# Altium footprint library PCB - DIODES - MBR0520LT1G.PCBLIB: 1 footprints
Each footprint in its own frame and in the unit in brackets; x right, y up, seen from the top. Pads: shape width x height; smd on the part's side, far side on the other; paste and mask are expansions set on the pad; w line width, h text height; cw(c..) or ccw(c..) is an arc to the next point about the centre after c.
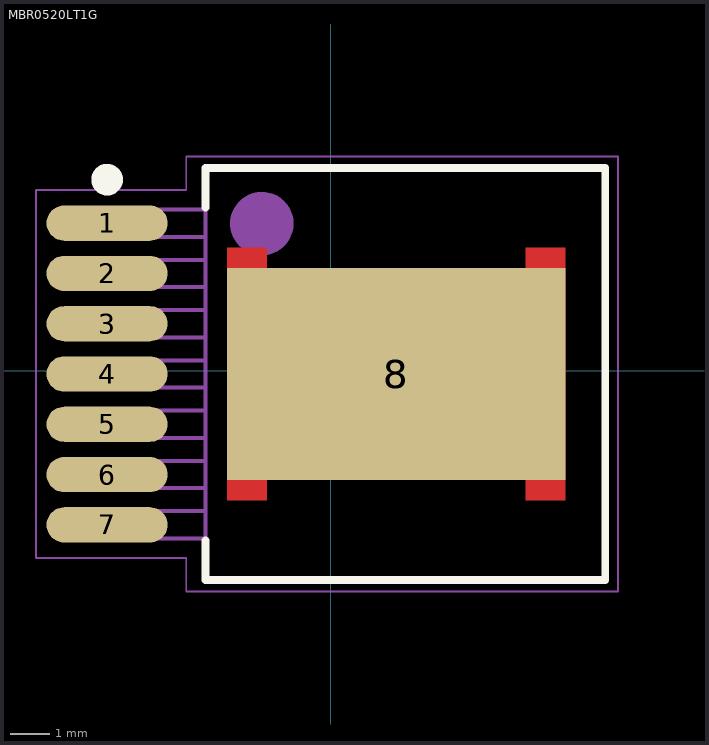
[diagram p0: the footprint, top view; thin cyan lines are the x and y axes]

## MBR0520LT1G [mm]
height 0.6
pads (16):
  oval 3.06x0.89 smd: 1(-5.648,3.73) 1(-5.648,3.73) 2(-5.648,2.46) 2(-5.648,2.46) 3(-5.648,1.19) 3(-5.648,1.19) 4(-5.648,-0.08) 4(-5.648,-0.08) 5(-5.648,-1.35) 5(-5.648,-1.35) 6(-5.648,-2.62) 6(-5.648,-2.62) 7(-5.648,-3.89) 7(-5.648,-3.89)
  rect 8.54x5.35 smd: 8(1.657,-0.08) 8(1.657,-0.08)
Top Layer:
  region: 5.927,-3.28 5.927,3.12 4.927,3.12 4.927,-3.28
  region: -2.613,3.12 -2.613,-3.28 -1.613,-3.28 -1.613,3.12
  region: 5.927,-3.28 5.927,3.12 4.927,3.12 4.927,-3.28
  region: -2.613,3.12 -2.613,-3.28 -1.613,-3.28 -1.613,3.12
Top Overlay:
  circle w0.4: c-5.648,4.83 r0.2
  circle w0.4: c-5.648,4.83 r0.2
  lines w0.2: -3.163,-5.285 6.937,-5.285 ; -3.163,-5.285 -3.163,-4.285 -3.163,-5.285 ; -3.163,-5.285 6.937,-5.285 ; -3.163,5.125 -3.163,4.125 -3.163,5.125 ; -3.163,5.125 6.937,5.125 ; -3.163,5.125 6.937,5.125 ; 6.937,-5.285 6.937,5.125 ; 6.937,-5.285 6.937,5.125
Top Assembly:
  circle w0.8: c-1.738,3.72 r0.4
  circle w0.8: c-1.738,3.72 r0.4
  lines w0.1: -3.163,-5.285 -3.163,5.125 ; -3.163,-5.285 -3.163,5.125 ; -3.163,-5.285 6.937,-5.285 ; -3.163,-5.285 6.937,-5.285 ; -3.163,5.125 6.937,5.125 ; -3.163,5.125 6.937,5.125 ; 6.937,-5.285 6.937,5.125 ; 6.937,-5.285 6.937,5.125 ; -6.838,-4.235 -3.163,-4.235 -6.838,-4.235 ; -6.838,-3.545 -3.163,-3.545 -6.838,-3.545 ; -6.838,-2.965 -3.163,-2.965 -6.838,-2.965 ; -6.838,-2.275 -3.163,-2.275 -6.838,-2.275 ; -6.838,-1.695 -3.163,-1.695 -6.838,-1.695 ; -6.838,-1.005 -3.163,-1.005 -6.838,-1.005 ; -6.838,-0.425 -3.163,-0.425 -6.838,-0.425 ; -6.838,0.265 -3.163,0.265 -6.838,0.265 ; -6.838,0.845 -3.163,0.845 -6.838,0.845 ; -6.838,1.535 -3.163,1.535 -6.838,1.535 ; -6.838,2.115 -3.163,2.115 -6.838,2.115 ; -6.838,2.805 -3.163,2.805 -6.838,2.805 ; -6.838,3.385 -3.163,3.385 -6.838,3.385 ; -6.838,4.075 -3.163,4.075 -6.838,4.075 ; -6.833,-4.235 -6.833,-3.545 -6.833,-4.235 ; -6.833,-2.965 -6.833,-2.275 -6.833,-2.965 ; -6.833,-1.695 -6.833,-1.005 -6.833,-1.695 ; -6.833,-0.425 -6.833,0.265 -6.833,-0.425 ; -6.833,0.845 -6.833,1.535 -6.833,0.845 ; -6.833,2.115 -6.833,2.805 -6.833,2.115 ; -6.833,3.385 -6.833,4.075 -6.833,3.385 ; -4.738,-4.235 -4.738,-3.545 -4.738,-4.235 ; -4.738,-2.965 -4.738,-2.275 -4.738,-2.965 ; -4.738,-1.695 -4.738,-1.005 -4.738,-1.695 ; -4.738,-0.425 -4.738,0.265 -4.738,-0.425 ; -4.738,0.85 -4.738,1.535 -4.738,0.85 ; -4.738,2.125 -4.738,2.805 -4.738,2.125 ; -4.738,3.385 -4.738,4.075 -4.738,3.385
Top Courtyard:
  lines w0.05: -7.448,-4.73 -3.648,-4.73 ; -7.448,-4.73 -3.648,-4.73 ; -7.448,-4.73 -7.448,4.57 ; -7.448,-4.73 -7.448,4.57 ; -7.448,4.57 -3.648,4.57 ; -7.448,4.57 -3.648,4.57 ; -3.648,-5.58 7.252,-5.58 ; -3.648,-5.58 -3.648,-4.73 ; -3.648,-5.58 7.252,-5.58 ; -3.648,-5.58 -3.648,-4.73 ; -3.648,4.57 -3.648,5.42 ; -3.648,4.57 -3.648,5.42 ; -3.648,5.42 7.252,5.42 ; -3.648,5.42 7.252,5.42 ; 7.252,-5.58 7.252,5.42 ; 7.252,-5.58 7.252,5.42
Top Designator:
  text ".Designator" at -3,-6.8 h1
Top Component Center:
  lines w0.05: -0.5,0 0.5,0 -0.5,0 ; 0,-0.5 0,0.5 0,-0.5
3D body: height 4.8, standoff 0, extent -2.088,2.195 -0.088,4.195
3D body: height 4.8, standoff 0, extent -2.088,2.195 -0.088,4.195
3D body "NDW0007A.stp": height 4.77, standoff 0, extent -6.833,-5.16 6.937,5